# Altium footprint library 54602-908LF.PcbLib: 1 footprints
Each footprint in its own frame and in the unit in brackets; x right, y up, seen from the top. Pads: shape width x height; smd on the part's side, far side on the other; paste and mask are expansions set on the pad; w line width, h text height; cw(c..) or ccw(c..) is an arc to the next point about the centre after c.
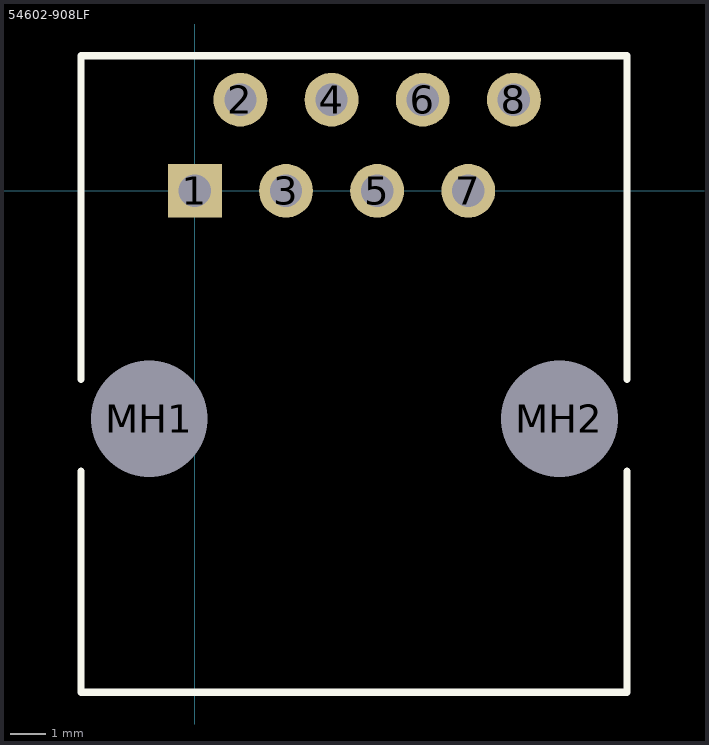
[diagram p0: the footprint, top view; thin cyan lines are the x and y axes]

## 54602-908LF [mm] "Ethernet jack"
pads (10):
  rect 1.5x1.5 hole 0.9: 1(0,0)
  round 1.5 hole 0.9: 2(1.27,2.54) 3(2.54,0) 4(3.81,2.54) 5(5.08,0) 6(6.35,2.54) 7(7.62,0) 8(8.89,2.54)
  round 2.95 hole 3.25 unplated: MH1(-1.27,-6.35) MH2(10.16,-6.35)
Top Overlay:
  lines w0.2: -3.17,-7.807 -3.17,-13.97 12.04,-13.97 12.04,-7.807 ; -3.17,-5.249 -3.17,3.762 12.04,3.762 12.04,-5.249
3D body: height 12.69, standoff -3.51, extent -3.21,-14.001 12.09,3.739